# Altium schematic symbol library Vishay Draloric Ceramic Disc Capacitor.SchLib: 519 symbols (part 5 of 8)
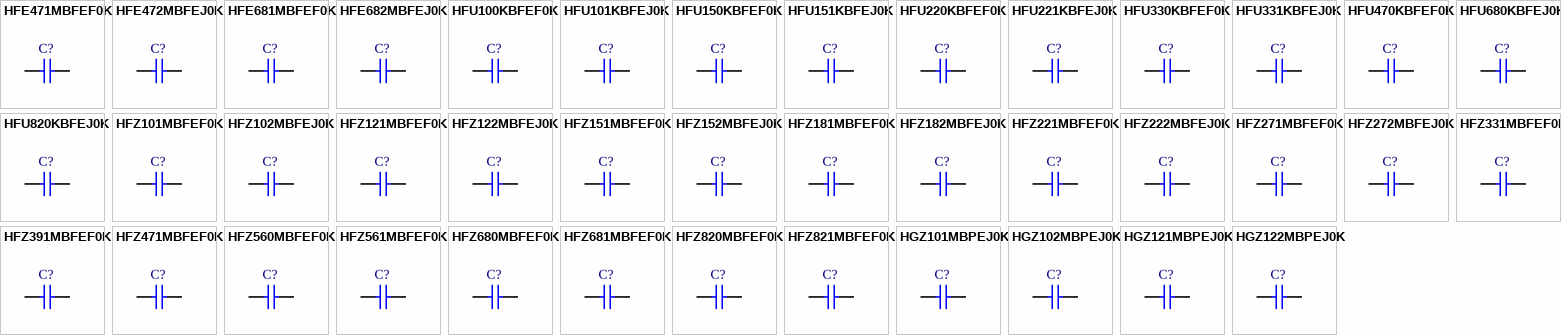
[diagram p16: symbols HFE471MBFEF0K to HGZ122MBPEJ0K]

## HFZ101MBFEF0K
designator C?
Ceramic High Voltage Disc Capacitor, Class 2: 100pF 6kV K 2000; Note: See Datasheet for other lead types & tolerances; Published: 17-Dec-2003; DatasheetDocument: 11-Dec-2001; PackageDocument: 2-Aug-2001; PackageReference: CAPRD12.5-8X5C; Publisher: Altium Limited; ComponentLink1Description: Manufacturer Link; ComponentLink1URL: http://www.vishay.com/; ComponentLink2Description: Datasheet; ComponentLink2URL: http://www.vishay.com/docs/22161/h.pdf; Value: 100pF
footprint CAPRD12.5-8X5C (Capacitor, Ceramic, Thru-Hole, Disc; Body 8 x 5 mm (LxW max) Pin Spacing 12.5 mm (typ))
simulation model CAP (Capacitor)
signal-integrity model Cap
pins: 1, 2

## HFZ102MBFEJ0K
designator C?
Ceramic High Voltage Disc Capacitor, Class 2: 1000pF 6kV K 2000; Note: See Datasheet for other lead types & tolerances; Value: 1nF; Published: 17-Dec-2003; DatasheetDocument: 11-Dec-2001; PackageDocument: 2-Aug-2001; PackageReference: CAPRD12.5-17X5A; Publisher: Altium Limited; ComponentLink1Description: Manufacturer Link; ComponentLink1URL: http://www.vishay.com/; ComponentLink2Description: Datasheet; ComponentLink2URL: http://www.vishay.com/docs/22161/h.pdf
footprint CAPRD12.5-17X5A (Capacitor, Ceramic, Thru-Hole, Disc; Body 17 x 5 mm (LxW max) Pin Spacing 12.5 mm (typ))
simulation model CAP (Capacitor)
signal-integrity model Cap
pins: 1, 2

## HFZ121MBFEF0K
designator C?
Ceramic High Voltage Disc Capacitor, Class 2: 120pF 6kV K 2000; Note: See Datasheet for other lead types & tolerances; Published: 17-Dec-2003; DatasheetDocument: 11-Dec-2001; PackageDocument: 2-Aug-2001; PackageReference: CAPRD12.5-8X5C; Publisher: Altium Limited; ComponentLink1Description: Manufacturer Link; ComponentLink1URL: http://www.vishay.com/; ComponentLink2Description: Datasheet; ComponentLink2URL: http://www.vishay.com/docs/22161/h.pdf; Value: 120pF
footprint CAPRD12.5-8X5C (Capacitor, Ceramic, Thru-Hole, Disc; Body 8 x 5 mm (LxW max) Pin Spacing 12.5 mm (typ))
simulation model CAP (Capacitor)
signal-integrity model Cap
pins: 1, 2

## HFZ122MBFEJ0K
designator C?
Ceramic High Voltage Disc Capacitor, Class 2: 1200pF 6kV K 2000; Note: See Datasheet for other lead types & tolerances; Value: 1.2nF; Published: 17-Dec-2003; DatasheetDocument: 11-Dec-2001; PackageDocument: 2-Aug-2001; PackageReference: CAPRD12.5-19X5; Publisher: Altium Limited; ComponentLink1Description: Manufacturer Link; ComponentLink1URL: http://www.vishay.com/; ComponentLink2Description: Datasheet; ComponentLink2URL: http://www.vishay.com/docs/22161/h.pdf
footprint CAPRD12.5-19X5 (Capacitor, Ceramic, Thru-Hole, Disc; Body 19 x 5 mm (LxW max) Pin Spacing 12.5 mm (typ))
simulation model CAP (Capacitor)
signal-integrity model Cap
pins: 1, 2

## HFZ151MBFEF0K
designator C?
Ceramic High Voltage Disc Capacitor, Class 2: 150pF 6kV K 2000; Note: See Datasheet for other lead types & tolerances; Published: 17-Dec-2003; DatasheetDocument: 11-Dec-2001; PackageDocument: 2-Aug-2001; PackageReference: CAPRD12.5-8X5C; Publisher: Altium Limited; ComponentLink1Description: Manufacturer Link; ComponentLink1URL: http://www.vishay.com/; ComponentLink2Description: Datasheet; ComponentLink2URL: http://www.vishay.com/docs/22161/h.pdf; Value: 150pF
footprint CAPRD12.5-8X5C (Capacitor, Ceramic, Thru-Hole, Disc; Body 8 x 5 mm (LxW max) Pin Spacing 12.5 mm (typ))
simulation model CAP (Capacitor)
signal-integrity model Cap
pins: 1, 2

## HFZ152MBFEJ0K
designator C?
Ceramic High Voltage Disc Capacitor, Class 2: 1500pF 6kV K 2000; Note: See Datasheet for other lead types & tolerances; Value: 1.5nF; Published: 17-Dec-2003; DatasheetDocument: 11-Dec-2001; PackageDocument: 2-Aug-2001; PackageReference: CAPRD12.5-21X5; Publisher: Altium Limited; ComponentLink1Description: Manufacturer Link; ComponentLink1URL: http://www.vishay.com/; ComponentLink2Description: Datasheet; ComponentLink2URL: http://www.vishay.com/docs/22161/h.pdf
footprint CAPRD12.5-21X5 (Capacitor, Ceramic, Thru-Hole, Disc; Body 21 x 5 mm (LxW max) Pin Spacing 12.5 mm (typ))
simulation model CAP (Capacitor)
signal-integrity model Cap
pins: 1, 2

## HFZ181MBFEF0K
designator C?
Ceramic High Voltage Disc Capacitor, Class 2: 180pF 6kV K 2000; Note: See Datasheet for other lead types & tolerances; Published: 17-Dec-2003; DatasheetDocument: 11-Dec-2001; PackageDocument: 2-Aug-2001; PackageReference: CAPRD12.5-10X5B; Publisher: Altium Limited; ComponentLink1Description: Manufacturer Link; ComponentLink1URL: http://www.vishay.com/; ComponentLink2Description: Datasheet; ComponentLink2URL: http://www.vishay.com/docs/22161/h.pdf; Value: 180pF
footprint CAPRD12.5-10X5B (Capacitor, Ceramic, Thru-Hole, Disc; Body 10 x 5 mm (LxW max) Pin Spacing 12.5 mm (typ))
simulation model CAP (Capacitor)
signal-integrity model Cap
pins: 1, 2

## HFZ182MBFEJ0K
designator C?
Ceramic High Voltage Disc Capacitor, Class 2: 1800pF 6kV K 2000; Note: See Datasheet for other lead types & tolerances; Value: 1.8nF; Published: 17-Dec-2003; DatasheetDocument: 11-Dec-2001; PackageDocument: 2-Aug-2001; PackageReference: CAPRD12.5-21X5; Publisher: Altium Limited; ComponentLink1Description: Manufacturer Link; ComponentLink1URL: http://www.vishay.com/; ComponentLink2Description: Datasheet; ComponentLink2URL: http://www.vishay.com/docs/22161/h.pdf
footprint CAPRD12.5-21X5 (Capacitor, Ceramic, Thru-Hole, Disc; Body 21 x 5 mm (LxW max) Pin Spacing 12.5 mm (typ))
simulation model CAP (Capacitor)
signal-integrity model Cap
pins: 1, 2

## HFZ221MBFEF0K
designator C?
Ceramic High Voltage Disc Capacitor, Class 2: 220pF 6kV K 2000; Note: See Datasheet for other lead types & tolerances; Published: 17-Dec-2003; DatasheetDocument: 11-Dec-2001; PackageDocument: 2-Aug-2001; PackageReference: CAPRD12.5-10X5B; Publisher: Altium Limited; ComponentLink1Description: Manufacturer Link; ComponentLink1URL: http://www.vishay.com/; ComponentLink2Description: Datasheet; ComponentLink2URL: http://www.vishay.com/docs/22161/h.pdf; Value: 220pF
footprint CAPRD12.5-10X5B (Capacitor, Ceramic, Thru-Hole, Disc; Body 10 x 5 mm (LxW max) Pin Spacing 12.5 mm (typ))
simulation model CAP (Capacitor)
signal-integrity model Cap
pins: 1, 2

## HFZ222MBFEJ0K
designator C?
Ceramic High Voltage Disc Capacitor, Class 2: 2200pF 6kV K 2000; Note: See Datasheet for other lead types & tolerances; Value: 2.2nF; Published: 17-Dec-2003; DatasheetDocument: 11-Dec-2001; PackageDocument: 2-Aug-2001; PackageReference: CAPRD12.5-25X5; Publisher: Altium Limited; ComponentLink1Description: Manufacturer Link; ComponentLink1URL: http://www.vishay.com/; ComponentLink2Description: Datasheet; ComponentLink2URL: http://www.vishay.com/docs/22161/h.pdf
footprint CAPRD12.5-25X5 (Capacitor, Ceramic, Thru-Hole, Disc; Body 25 x 5 mm (LxW max) Pin Spacing 12.5 mm (typ))
simulation model CAP (Capacitor)
signal-integrity model Cap
pins: 1, 2

## HFZ271MBFEF0K
designator C?
Ceramic High Voltage Disc Capacitor, Class 2: 270pF 6kV K 2000; Note: See Datasheet for other lead types & tolerances; Published: 17-Dec-2003; DatasheetDocument: 11-Dec-2001; PackageDocument: 2-Aug-2001; PackageReference: CAPRD12.5-10X5B; Publisher: Altium Limited; ComponentLink1Description: Manufacturer Link; ComponentLink1URL: http://www.vishay.com/; ComponentLink2Description: Datasheet; ComponentLink2URL: http://www.vishay.com/docs/22161/h.pdf; Value: 270pF
footprint CAPRD12.5-10X5B (Capacitor, Ceramic, Thru-Hole, Disc; Body 10 x 5 mm (LxW max) Pin Spacing 12.5 mm (typ))
simulation model CAP (Capacitor)
signal-integrity model Cap
pins: 1, 2

## HFZ272MBFEJ0K
designator C?
Ceramic High Voltage Disc Capacitor, Class 2: 2700pF 6kV K 2000; Note: See Datasheet for other lead types & tolerances; Value: 2.7nF; Published: 17-Dec-2003; DatasheetDocument: 11-Dec-2001; PackageDocument: 2-Aug-2001; PackageReference: CAPRD12.5-25X5; Publisher: Altium Limited; ComponentLink1Description: Manufacturer Link; ComponentLink1URL: http://www.vishay.com/; ComponentLink2Description: Datasheet; ComponentLink2URL: http://www.vishay.com/docs/22161/h.pdf
footprint CAPRD12.5-25X5 (Capacitor, Ceramic, Thru-Hole, Disc; Body 25 x 5 mm (LxW max) Pin Spacing 12.5 mm (typ))
simulation model CAP (Capacitor)
signal-integrity model Cap
pins: 1, 2

## HFZ331MBFEF0K
designator C?
Ceramic High Voltage Disc Capacitor, Class 2: 330pF 6kV K 2000; Note: See Datasheet for other lead types & tolerances; Published: 17-Dec-2003; DatasheetDocument: 11-Dec-2001; PackageDocument: 2-Aug-2001; PackageReference: CAPRD12.5-10X5B; Publisher: Altium Limited; ComponentLink1Description: Manufacturer Link; ComponentLink1URL: http://www.vishay.com/; ComponentLink2Description: Datasheet; ComponentLink2URL: http://www.vishay.com/docs/22161/h.pdf; Value: 330pF
footprint CAPRD12.5-10X5B (Capacitor, Ceramic, Thru-Hole, Disc; Body 10 x 5 mm (LxW max) Pin Spacing 12.5 mm (typ))
simulation model CAP (Capacitor)
signal-integrity model Cap
pins: 1, 2

## HFZ391MBFEF0K
designator C?
Ceramic High Voltage Disc Capacitor, Class 2: 390pF 6kV K 2000; Note: See Datasheet for other lead types & tolerances; Published: 17-Dec-2003; DatasheetDocument: 11-Dec-2001; PackageDocument: 2-Aug-2001; PackageReference: CAPRD12.5-12X5B; Publisher: Altium Limited; ComponentLink1Description: Manufacturer Link; ComponentLink1URL: http://www.vishay.com/; ComponentLink2Description: Datasheet; ComponentLink2URL: http://www.vishay.com/docs/22161/h.pdf; Value: 390pF
footprint CAPRD12.5-12X5B (Capacitor, Ceramic, Thru-Hole, Disc; Body 12 x 5 mm (LxW max) Pin Spacing 12.5 mm (typ))
simulation model CAP (Capacitor)
signal-integrity model Cap
pins: 1, 2

## HFZ471MBFEF0K
designator C?
Ceramic High Voltage Disc Capacitor, Class 2: 470pF 6kV K 2000; Note: See Datasheet for other lead types & tolerances; Published: 17-Dec-2003; DatasheetDocument: 11-Dec-2001; PackageDocument: 2-Aug-2001; PackageReference: CAPRD12.5-12X5B; Publisher: Altium Limited; ComponentLink1Description: Manufacturer Link; ComponentLink1URL: http://www.vishay.com/; ComponentLink2Description: Datasheet; ComponentLink2URL: http://www.vishay.com/docs/22161/h.pdf; Value: 470pF
footprint CAPRD12.5-12X5B (Capacitor, Ceramic, Thru-Hole, Disc; Body 12 x 5 mm (LxW max) Pin Spacing 12.5 mm (typ))
simulation model CAP (Capacitor)
signal-integrity model Cap
pins: 1, 2

## HFZ560MBFEF0K
designator C?
Ceramic High Voltage Disc Capacitor, Class 2: 56pF 6kV K 2000; Note: See Datasheet for other lead types & tolerances; Published: 17-Dec-2003; DatasheetDocument: 11-Dec-2001; PackageDocument: 2-Aug-2001; PackageReference: CAPRD12.5-7X5A; Publisher: Altium Limited; ComponentLink1Description: Manufacturer Link; ComponentLink1URL: http://www.vishay.com/; ComponentLink2Description: Datasheet; ComponentLink2URL: http://www.vishay.com/docs/22161/h.pdf; Value: 56pF
footprint CAPRD12.5-7X5A (Capacitor, Ceramic, Thru-Hole, Disc; Body 7 x 5 mm (LxW max) Pin Spacing 12.5 mm (typ))
simulation model CAP (Capacitor)
signal-integrity model Cap
pins: 1, 2

## HFZ561MBFEF0K
designator C?
Ceramic High Voltage Disc Capacitor, Class 2: 560pF 6kV K 2000; Note: See Datasheet for other lead types & tolerances; Published: 17-Dec-2003; DatasheetDocument: 11-Dec-2001; PackageDocument: 2-Aug-2001; PackageReference: CAPRD12.5-13X5B; Publisher: Altium Limited; ComponentLink1Description: Manufacturer Link; ComponentLink1URL: http://www.vishay.com/; ComponentLink2Description: Datasheet; ComponentLink2URL: http://www.vishay.com/docs/22161/h.pdf; Value: 560pF
footprint CAPRD12.5-13X5B (Capacitor, Ceramic, Thru-Hole, Disc; Body 13 x 5 mm (LxW max) Pin Spacing 12.5 mm (typ))
simulation model CAP (Capacitor)
signal-integrity model Cap
pins: 1, 2

## HFZ680MBFEF0K
designator C?
Ceramic High Voltage Disc Capacitor, Class 2: 68pF 6kV K 2000; Note: See Datasheet for other lead types & tolerances; Published: 17-Dec-2003; DatasheetDocument: 11-Dec-2001; PackageDocument: 2-Aug-2001; PackageReference: CAPRD12.5-7X5A; Publisher: Altium Limited; ComponentLink1Description: Manufacturer Link; ComponentLink1URL: http://www.vishay.com/; ComponentLink2Description: Datasheet; ComponentLink2URL: http://www.vishay.com/docs/22161/h.pdf; Value: 68pF
footprint CAPRD12.5-7X5A (Capacitor, Ceramic, Thru-Hole, Disc; Body 7 x 5 mm (LxW max) Pin Spacing 12.5 mm (typ))
simulation model CAP (Capacitor)
signal-integrity model Cap
pins: 1, 2

## HFZ681MBFEF0K
designator C?
Ceramic High Voltage Disc Capacitor, Class 2: 680pF 6kV K 2000; Note: See Datasheet for other lead types & tolerances; Published: 17-Dec-2003; DatasheetDocument: 11-Dec-2001; PackageDocument: 2-Aug-2001; PackageReference: CAPRD12.5-15X5B; Publisher: Altium Limited; ComponentLink1Description: Manufacturer Link; ComponentLink1URL: http://www.vishay.com/; ComponentLink2Description: Datasheet; ComponentLink2URL: http://www.vishay.com/docs/22161/h.pdf; Value: 680pF
footprint CAPRD12.5-15X5B (Capacitor, Ceramic, Thru-Hole, Disc; Body 15 x 5 mm (LxW max) Pin Spacing 12.5 mm (typ))
simulation model CAP (Capacitor)
signal-integrity model Cap
pins: 1, 2

## HFZ820MBFEF0K
designator C?
Ceramic High Voltage Disc Capacitor, Class 2: 82pF 6kV K 2000; Note: See Datasheet for other lead types & tolerances; Published: 17-Dec-2003; DatasheetDocument: 11-Dec-2001; PackageDocument: 2-Aug-2001; PackageReference: CAPRD12.5-7X5A; Publisher: Altium Limited; ComponentLink1Description: Manufacturer Link; ComponentLink1URL: http://www.vishay.com/; ComponentLink2Description: Datasheet; ComponentLink2URL: http://www.vishay.com/docs/22161/h.pdf; Value: 82pF
footprint CAPRD12.5-7X5A (Capacitor, Ceramic, Thru-Hole, Disc; Body 7 x 5 mm (LxW max) Pin Spacing 12.5 mm (typ))
simulation model CAP (Capacitor)
signal-integrity model Cap
pins: 1, 2

## HFZ821MBFEF0K
designator C?
Ceramic High Voltage Disc Capacitor, Class 2: 820pF 6kV K 2000; Note: See Datasheet for other lead types & tolerances; Published: 17-Dec-2003; DatasheetDocument: 11-Dec-2001; PackageDocument: 2-Aug-2001; PackageReference: CAPRD12.5-15X5B; Publisher: Altium Limited; ComponentLink1Description: Manufacturer Link; ComponentLink1URL: http://www.vishay.com/; ComponentLink2Description: Datasheet; ComponentLink2URL: http://www.vishay.com/docs/22161/h.pdf; Value: 820pF
footprint CAPRD12.5-15X5B (Capacitor, Ceramic, Thru-Hole, Disc; Body 15 x 5 mm (LxW max) Pin Spacing 12.5 mm (typ))
simulation model CAP (Capacitor)
signal-integrity model Cap
pins: 1, 2

## HGZ101MBPEJ0K
designator C?
Ceramic High Voltage Disc Capacitor, Class 2: 100pF 8kV K 2000; Note: See Datasheet for other lead types & tolerances; Published: 17-Dec-2003; DatasheetDocument: 11-Dec-2001; PackageDocument: 2-Aug-2001; PackageReference: CAPRD12.5-9X8.3; Publisher: Altium Limited; ComponentLink1Description: Manufacturer Link; ComponentLink1URL: http://www.vishay.com/; ComponentLink2Description: Datasheet; ComponentLink2URL: http://www.vishay.com/docs/22161/h.pdf; Value: 100pF
footprint CAPRD12.5-9X8.3 (Capacitor, Ceramic, Thru-Hole, Disc; Body 9 x 8.3 mm (LxW max) Pin Spacing 12.5 mm (typ))
simulation model CAP (Capacitor)
signal-integrity model Cap
pins: 1, 2

## HGZ102MBPEJ0K
designator C?
Ceramic High Voltage Disc Capacitor, Class 2: 1000pF 8kV K 2000; Note: See Datasheet for other lead types & tolerances; Value: 1nF; Published: 17-Dec-2003; DatasheetDocument: 11-Dec-2001; PackageDocument: 2-Aug-2001; PackageReference: CAPRD12.5-18X8.3; Publisher: Altium Limited; ComponentLink1Description: Manufacturer Link; ComponentLink1URL: http://www.vishay.com/; ComponentLink2Description: Datasheet; ComponentLink2URL: http://www.vishay.com/docs/22161/h.pdf
footprint CAPRD12.5-18X8.3 (Capacitor, Ceramic, Thru-Hole, Disc; Body 18 x 8.3 mm (LxW max) Pin Spacing 12.5 mm (typ))
simulation model CAP (Capacitor)
signal-integrity model Cap
pins: 1, 2

## HGZ121MBPEJ0K
designator C?
Ceramic High Voltage Disc Capacitor, Class 2: 120pF 8kV K 2000; Note: See Datasheet for other lead types & tolerances; Published: 17-Dec-2003; DatasheetDocument: 11-Dec-2001; PackageDocument: 2-Aug-2001; PackageReference: CAPRD12.5-9X8.3; Publisher: Altium Limited; ComponentLink1Description: Manufacturer Link; ComponentLink1URL: http://www.vishay.com/; ComponentLink2Description: Datasheet; ComponentLink2URL: http://www.vishay.com/docs/22161/h.pdf; Value: 120pF
footprint CAPRD12.5-9X8.3 (Capacitor, Ceramic, Thru-Hole, Disc; Body 9 x 8.3 mm (LxW max) Pin Spacing 12.5 mm (typ))
simulation model CAP (Capacitor)
signal-integrity model Cap
pins: 1, 2

## HGZ122MBPEJ0K
designator C?
Ceramic High Voltage Disc Capacitor, Class 2: 1200pF 8kV K 2000; Note: See Datasheet for other lead types & tolerances; Value: 1.2nF; Published: 17-Dec-2003; DatasheetDocument: 11-Dec-2001; PackageDocument: 2-Aug-2001; PackageReference: CAPRD12.5-21X8.3; Publisher: Altium Limited; ComponentLink1Description: Manufacturer Link; ComponentLink1URL: http://www.vishay.com/; ComponentLink2Description: Datasheet; ComponentLink2URL: http://www.vishay.com/docs/22161/h.pdf
footprint CAPRD12.5-21X8.3 (Capacitor, Ceramic, Thru-Hole, Disc; Body 21 x 8.3 mm (LxW max) Pin Spacing 12.5 mm (typ))
simulation model CAP (Capacitor)
signal-integrity model Cap
pins: 1, 2

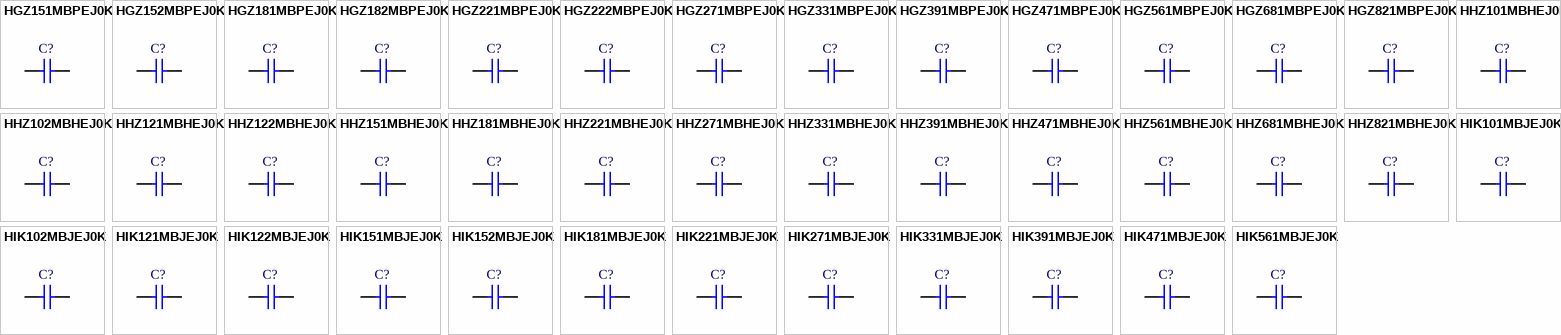
[diagram p8: symbols HGZ151MBPEJ0K to HIK561MBJEJ0K]

## HGZ151MBPEJ0K
designator C?
Ceramic High Voltage Disc Capacitor, Class 2: 150pF 8kV K 2000; Note: See Datasheet for other lead types & tolerances; Published: 17-Dec-2003; DatasheetDocument: 11-Dec-2001; PackageDocument: 2-Aug-2001; PackageReference: CAPRD12.5-9X8.3; Publisher: Altium Limited; ComponentLink1Description: Manufacturer Link; ComponentLink1URL: http://www.vishay.com/; ComponentLink2Description: Datasheet; ComponentLink2URL: http://www.vishay.com/docs/22161/h.pdf; Value: 150pF
footprint CAPRD12.5-9X8.3 (Capacitor, Ceramic, Thru-Hole, Disc; Body 9 x 8.3 mm (LxW max) Pin Spacing 12.5 mm (typ))
simulation model CAP (Capacitor)
signal-integrity model Cap
pins: 1, 2

## HGZ152MBPEJ0K
designator C?
Ceramic High Voltage Disc Capacitor, Class 2: 1500pF 8kV K 2000; Note: See Datasheet for other lead types & tolerances; Value: 1.5nF; Published: 17-Dec-2003; DatasheetDocument: 11-Dec-2001; PackageDocument: 2-Aug-2001; PackageReference: CAPRD12.5-21X8.3; Publisher: Altium Limited; ComponentLink1Description: Manufacturer Link; ComponentLink1URL: http://www.vishay.com/; ComponentLink2Description: Datasheet; ComponentLink2URL: http://www.vishay.com/docs/22161/h.pdf
footprint CAPRD12.5-21X8.3 (Capacitor, Ceramic, Thru-Hole, Disc; Body 21 x 8.3 mm (LxW max) Pin Spacing 12.5 mm (typ))
simulation model CAP (Capacitor)
signal-integrity model Cap
pins: 1, 2

## HGZ181MBPEJ0K
designator C?
Ceramic High Voltage Disc Capacitor, Class 2: 180pF 8kV K 2000; Note: See Datasheet for other lead types & tolerances; Published: 17-Dec-2003; DatasheetDocument: 11-Dec-2001; PackageDocument: 2-Aug-2001; PackageReference: CAPRD12.5-11X8.3; Publisher: Altium Limited; ComponentLink1Description: Manufacturer Link; ComponentLink1URL: http://www.vishay.com/; ComponentLink2Description: Datasheet; ComponentLink2URL: http://www.vishay.com/docs/22161/h.pdf; Value: 180pF
footprint CAPRD12.5-11X8.3 (Capacitor, Ceramic, Thru-Hole, Disc; Body 11 x 8.3 mm (LxW max) Pin Spacing 12.5 mm (typ))
simulation model CAP (Capacitor)
signal-integrity model Cap
pins: 1, 2

## HGZ182MBPEJ0K
designator C?
Ceramic High Voltage Disc Capacitor, Class 2: 1800pF 8kV K 2000; Note: See Datasheet for other lead types & tolerances; Value: 1.8nF; Published: 17-Dec-2003; DatasheetDocument: 11-Dec-2001; PackageDocument: 2-Aug-2001; PackageReference: CAPRD12.5-24X8.3; Publisher: Altium Limited; ComponentLink1Description: Manufacturer Link; ComponentLink1URL: http://www.vishay.com/; ComponentLink2Description: Datasheet; ComponentLink2URL: http://www.vishay.com/docs/22161/h.pdf
footprint CAPRD12.5-24X8.3 (Capacitor, Ceramic, Thru-Hole, Disc; Body 24 x 8.3 mm (LxW max) Pin Spacing 12.5 mm (typ))
simulation model CAP (Capacitor)
signal-integrity model Cap
pins: 1, 2

## HGZ221MBPEJ0K
designator C?
Ceramic High Voltage Disc Capacitor, Class 2: 220pF 8kV K 2000; Note: See Datasheet for other lead types & tolerances; Published: 17-Dec-2003; DatasheetDocument: 11-Dec-2001; PackageDocument: 2-Aug-2001; PackageReference: CAPRD12.5-11X8.3; Publisher: Altium Limited; ComponentLink1Description: Manufacturer Link; ComponentLink1URL: http://www.vishay.com/; ComponentLink2Description: Datasheet; ComponentLink2URL: http://www.vishay.com/docs/22161/h.pdf; Value: 220pF
footprint CAPRD12.5-11X8.3 (Capacitor, Ceramic, Thru-Hole, Disc; Body 11 x 8.3 mm (LxW max) Pin Spacing 12.5 mm (typ))
simulation model CAP (Capacitor)
signal-integrity model Cap
pins: 1, 2

## HGZ222MBPEJ0K
designator C?
Ceramic High Voltage Disc Capacitor, Class 2: 2200pF 8kV K 2000; Note: See Datasheet for other lead types & tolerances; Value: 2.2nF; Published: 17-Dec-2003; DatasheetDocument: 11-Dec-2001; PackageDocument: 2-Aug-2001; PackageReference: CAPRD12.5-24X8.3; Publisher: Altium Limited; ComponentLink1Description: Manufacturer Link; ComponentLink1URL: http://www.vishay.com/; ComponentLink2Description: Datasheet; ComponentLink2URL: http://www.vishay.com/docs/22161/h.pdf
footprint CAPRD12.5-24X8.3 (Capacitor, Ceramic, Thru-Hole, Disc; Body 24 x 8.3 mm (LxW max) Pin Spacing 12.5 mm (typ))
simulation model CAP (Capacitor)
signal-integrity model Cap
pins: 1, 2

## HGZ271MBPEJ0K
designator C?
Ceramic High Voltage Disc Capacitor, Class 2: 270pF 8kV K 2000; Note: See Datasheet for other lead types & tolerances; Published: 17-Dec-2003; DatasheetDocument: 11-Dec-2001; PackageDocument: 2-Aug-2001; PackageReference: CAPRD12.5-11X8.3; Publisher: Altium Limited; ComponentLink1Description: Manufacturer Link; ComponentLink1URL: http://www.vishay.com/; ComponentLink2Description: Datasheet; ComponentLink2URL: http://www.vishay.com/docs/22161/h.pdf; Value: 270pF
footprint CAPRD12.5-11X8.3 (Capacitor, Ceramic, Thru-Hole, Disc; Body 11 x 8.3 mm (LxW max) Pin Spacing 12.5 mm (typ))
simulation model CAP (Capacitor)
signal-integrity model Cap
pins: 1, 2

## HGZ331MBPEJ0K
designator C?
Ceramic High Voltage Disc Capacitor, Class 2: 330pF 8kV K 2000; Note: See Datasheet for other lead types & tolerances; Published: 17-Dec-2003; DatasheetDocument: 11-Dec-2001; PackageDocument: 2-Aug-2001; PackageReference: CAPRD12.5-13X8.3; Publisher: Altium Limited; ComponentLink1Description: Manufacturer Link; ComponentLink1URL: http://www.vishay.com/; ComponentLink2Description: Datasheet; ComponentLink2URL: http://www.vishay.com/docs/22161/h.pdf; Value: 330pF
footprint CAPRD12.5-13X8.3 (Capacitor, Ceramic, Thru-Hole, Disc; Body 13 x 8.3 mm (LxW max) Pin Spacing 12.5 mm (typ))
simulation model CAP (Capacitor)
signal-integrity model Cap
pins: 1, 2

## HGZ391MBPEJ0K
designator C?
Ceramic High Voltage Disc Capacitor, Class 2: 390pF 8kV K 2000; Note: See Datasheet for other lead types & tolerances; Published: 17-Dec-2003; DatasheetDocument: 11-Dec-2001; PackageDocument: 2-Aug-2001; PackageReference: CAPRD12.5-13X8.3; Publisher: Altium Limited; ComponentLink1Description: Manufacturer Link; ComponentLink1URL: http://www.vishay.com/; ComponentLink2Description: Datasheet; ComponentLink2URL: http://www.vishay.com/docs/22161/h.pdf; Value: 390pF
footprint CAPRD12.5-13X8.3 (Capacitor, Ceramic, Thru-Hole, Disc; Body 13 x 8.3 mm (LxW max) Pin Spacing 12.5 mm (typ))
simulation model CAP (Capacitor)
signal-integrity model Cap
pins: 1, 2

## HGZ471MBPEJ0K
designator C?
Ceramic High Voltage Disc Capacitor, Class 2: 470pF 8kV K 2000; Note: See Datasheet for other lead types & tolerances; Published: 17-Dec-2003; DatasheetDocument: 11-Dec-2001; PackageDocument: 2-Aug-2001; PackageReference: CAPRD12.5-14X8.3; Publisher: Altium Limited; ComponentLink1Description: Manufacturer Link; ComponentLink1URL: http://www.vishay.com/; ComponentLink2Description: Datasheet; ComponentLink2URL: http://www.vishay.com/docs/22161/h.pdf; Value: 470pF
footprint CAPRD12.5-14X8.3 (Capacitor, Ceramic, Thru-Hole, Disc; Body 14 x 8.3 mm (LxW max) Pin Spacing 12.5 mm (typ))
simulation model CAP (Capacitor)
signal-integrity model Cap
pins: 1, 2

## HGZ561MBPEJ0K
designator C?
Ceramic High Voltage Disc Capacitor, Class 2: 560pF 8kV K 2000; Note: See Datasheet for other lead types & tolerances; Published: 17-Dec-2003; DatasheetDocument: 11-Dec-2001; PackageDocument: 2-Aug-2001; PackageReference: CAPRD12.5-16X8.3; Publisher: Altium Limited; ComponentLink1Description: Manufacturer Link; ComponentLink1URL: http://www.vishay.com/; ComponentLink2Description: Datasheet; ComponentLink2URL: http://www.vishay.com/docs/22161/h.pdf; Value: 560pF
footprint CAPRD12.5-16X8.3 (Capacitor, Ceramic, Thru-Hole, Disc; Body 16 x 8.3 mm (LxW max) Pin Spacing 12.5 mm (typ))
simulation model CAP (Capacitor)
signal-integrity model Cap
pins: 1, 2

## HGZ681MBPEJ0K
designator C?
Ceramic High Voltage Disc Capacitor, Class 2: 680pF 8kV K 2000; Note: See Datasheet for other lead types & tolerances; Published: 17-Dec-2003; DatasheetDocument: 11-Dec-2001; PackageDocument: 2-Aug-2001; PackageReference: CAPRD12.5-16X8.3; Publisher: Altium Limited; ComponentLink1Description: Manufacturer Link; ComponentLink1URL: http://www.vishay.com/; ComponentLink2Description: Datasheet; ComponentLink2URL: http://www.vishay.com/docs/22161/h.pdf; Value: 680pF
footprint CAPRD12.5-16X8.3 (Capacitor, Ceramic, Thru-Hole, Disc; Body 16 x 8.3 mm (LxW max) Pin Spacing 12.5 mm (typ))
simulation model CAP (Capacitor)
signal-integrity model Cap
pins: 1, 2

## HGZ821MBPEJ0K
designator C?
Ceramic High Voltage Disc Capacitor, Class 2: 820pF 8kV K 2000; Note: See Datasheet for other lead types & tolerances; Published: 17-Dec-2003; DatasheetDocument: 11-Dec-2001; PackageDocument: 2-Aug-2001; PackageReference: CAPRD12.5-18X8.3; Publisher: Altium Limited; ComponentLink1Description: Manufacturer Link; ComponentLink1URL: http://www.vishay.com/; ComponentLink2Description: Datasheet; ComponentLink2URL: http://www.vishay.com/docs/22161/h.pdf; Value: 820pF
footprint CAPRD12.5-18X8.3 (Capacitor, Ceramic, Thru-Hole, Disc; Body 18 x 8.3 mm (LxW max) Pin Spacing 12.5 mm (typ))
simulation model CAP (Capacitor)
signal-integrity model Cap
pins: 1, 2

## HHZ101MBHEJ0K
designator C?
Ceramic High Voltage Disc Capacitor, Class 2: 100pF 10kV K 2000; Note: See Datasheet for other lead types & tolerances; Published: 17-Dec-2003; DatasheetDocument: 11-Dec-2001; PackageDocument: 2-Aug-2001; PackageReference: CAPRD12.5-11X6; Publisher: Altium Limited; ComponentLink1Description: Manufacturer Link; ComponentLink1URL: http://www.vishay.com/; ComponentLink2Description: Datasheet; ComponentLink2URL: http://www.vishay.com/docs/22161/h.pdf; Value: 100pF
footprint CAPRD12.5-11X6 (Capacitor, Ceramic, Thru-Hole, Disc; Body 11 x 6 mm (LxW max) Pin Spacing 12.5 mm (typ))
simulation model CAP (Capacitor)
signal-integrity model Cap
pins: 1, 2

## HHZ102MBHEJ0K
designator C?
Ceramic High Voltage Disc Capacitor, Class 2: 1000pF 10kV K 2000; Note: See Datasheet for other lead types & tolerances; Value: 1nF; Published: 17-Dec-2003; DatasheetDocument: 11-Dec-2001; PackageDocument: 2-Aug-2001; PackageReference: CAPRD12.5-21X9; Publisher: Altium Limited; ComponentLink1Description: Manufacturer Link; ComponentLink1URL: http://www.vishay.com/; ComponentLink2Description: Datasheet; ComponentLink2URL: http://www.vishay.com/docs/22161/h.pdf
footprint CAPRD12.5-21X9 (Capacitor, Ceramic, Thru-Hole, Disc; Body 21 x 9 mm (LxW max) Pin Spacing 12.5 mm (typ))
simulation model CAP (Capacitor)
signal-integrity model Cap
pins: 1, 2

## HHZ121MBHEJ0K
designator C?
Ceramic High Voltage Disc Capacitor, Class 2: 120pF 10kV K 2000; Note: See Datasheet for other lead types & tolerances; Published: 17-Dec-2003; DatasheetDocument: 11-Dec-2001; PackageDocument: 2-Aug-2001; PackageReference: CAPRD12.5-11X6; Publisher: Altium Limited; ComponentLink1Description: Manufacturer Link; ComponentLink1URL: http://www.vishay.com/; ComponentLink2Description: Datasheet; ComponentLink2URL: http://www.vishay.com/docs/22161/h.pdf; Value: 120pF
footprint CAPRD12.5-11X6 (Capacitor, Ceramic, Thru-Hole, Disc; Body 11 x 6 mm (LxW max) Pin Spacing 12.5 mm (typ))
simulation model CAP (Capacitor)
signal-integrity model Cap
pins: 1, 2

## HHZ122MBHEJ0K
designator C?
Ceramic High Voltage Disc Capacitor, Class 2: 1200pF 10kV K 2000; Note: See Datasheet for other lead types & tolerances; Value: 1.2nF; Published: 17-Dec-2003; DatasheetDocument: 11-Dec-2001; PackageDocument: 2-Aug-2001; PackageReference: CAPRD12.5-21X5A; Publisher: Altium Limited; ComponentLink1Description: Manufacturer Link; ComponentLink1URL: http://www.vishay.com/; ComponentLink2Description: Datasheet; ComponentLink2URL: http://www.vishay.com/docs/22161/h.pdf
footprint CAPRD12.5-21X5A (Capacitor, Ceramic, Thru-Hole, Disc; Body 21 x 5 mm (LxW max) Pin Spacing 12.5 mm (typ))
simulation model CAP (Capacitor)
signal-integrity model Cap
pins: 1, 2

## HHZ151MBHEJ0K
designator C?
Ceramic High Voltage Disc Capacitor, Class 2: 150pF 10kV K 2000; Note: See Datasheet for other lead types & tolerances; Published: 17-Dec-2003; DatasheetDocument: 11-Dec-2001; PackageDocument: 2-Aug-2001; PackageReference: CAPRD12.5-11X9; Publisher: Altium Limited; ComponentLink1Description: Manufacturer Link; ComponentLink1URL: http://www.vishay.com/; ComponentLink2Description: Datasheet; ComponentLink2URL: http://www.vishay.com/docs/22161/h.pdf; Value: 150pF
footprint CAPRD12.5-11X9 (Capacitor, Ceramic, Thru-Hole, Disc; Body 11 x 9 mm (LxW max) Pin Spacing 12.5 mm (typ))
simulation model CAP (Capacitor)
signal-integrity model Cap
pins: 1, 2

## HHZ181MBHEJ0K
designator C?
Ceramic High Voltage Disc Capacitor, Class 2: 180pF 10kV K 2000; Note: See Datasheet for other lead types & tolerances; Published: 17-Dec-2003; DatasheetDocument: 11-Dec-2001; PackageDocument: 2-Aug-2001; PackageReference: CAPRD12.5-11X9; Publisher: Altium Limited; ComponentLink1Description: Manufacturer Link; ComponentLink1URL: http://www.vishay.com/; ComponentLink2Description: Datasheet; ComponentLink2URL: http://www.vishay.com/docs/22161/h.pdf; Value: 180pF
footprint CAPRD12.5-11X9 (Capacitor, Ceramic, Thru-Hole, Disc; Body 11 x 9 mm (LxW max) Pin Spacing 12.5 mm (typ))
simulation model CAP (Capacitor)
signal-integrity model Cap
pins: 1, 2

## HHZ221MBHEJ0K
designator C?
Ceramic High Voltage Disc Capacitor, Class 2: 220pF 10kV K 2000; Note: See Datasheet for other lead types & tolerances; Published: 17-Dec-2003; DatasheetDocument: 11-Dec-2001; PackageDocument: 2-Aug-2001; PackageReference: CAPRD12.5-11X9; Publisher: Altium Limited; ComponentLink1Description: Manufacturer Link; ComponentLink1URL: http://www.vishay.com/; ComponentLink2Description: Datasheet; ComponentLink2URL: http://www.vishay.com/docs/22161/h.pdf; Value: 220pF
footprint CAPRD12.5-11X9 (Capacitor, Ceramic, Thru-Hole, Disc; Body 11 x 9 mm (LxW max) Pin Spacing 12.5 mm (typ))
simulation model CAP (Capacitor)
signal-integrity model Cap
pins: 1, 2

## HHZ271MBHEJ0K
designator C?
Ceramic High Voltage Disc Capacitor, Class 2: 270pF 10kV K 2000; Note: See Datasheet for other lead types & tolerances; Published: 17-Dec-2003; DatasheetDocument: 11-Dec-2001; PackageDocument: 2-Aug-2001; PackageReference: CAPRD12.5-13X9; Publisher: Altium Limited; ComponentLink1Description: Manufacturer Link; ComponentLink1URL: http://www.vishay.com/; ComponentLink2Description: Datasheet; ComponentLink2URL: http://www.vishay.com/docs/22161/h.pdf; Value: 270pF
footprint CAPRD12.5-13X9 (Capacitor, Ceramic, Thru-Hole, Disc; Body 13 x 9 mm (LxW max) Pin Spacing 12.5 mm (typ))
simulation model CAP (Capacitor)
signal-integrity model Cap
pins: 1, 2

## HHZ331MBHEJ0K
designator C?
Ceramic High Voltage Disc Capacitor, Class 2: 330pF 10kV K 2000; Note: See Datasheet for other lead types & tolerances; Published: 17-Dec-2003; DatasheetDocument: 11-Dec-2001; PackageDocument: 2-Aug-2001; PackageReference: CAPRD12.5-13X9; Publisher: Altium Limited; ComponentLink1Description: Manufacturer Link; ComponentLink1URL: http://www.vishay.com/; ComponentLink2Description: Datasheet; ComponentLink2URL: http://www.vishay.com/docs/22161/h.pdf; Value: 330pF
footprint CAPRD12.5-13X9 (Capacitor, Ceramic, Thru-Hole, Disc; Body 13 x 9 mm (LxW max) Pin Spacing 12.5 mm (typ))
simulation model CAP (Capacitor)
signal-integrity model Cap
pins: 1, 2

## HHZ391MBHEJ0K
designator C?
Ceramic High Voltage Disc Capacitor, Class 2: 390pF 10kV K 2000; Note: See Datasheet for other lead types & tolerances; Published: 17-Dec-2003; DatasheetDocument: 11-Dec-2001; PackageDocument: 2-Aug-2001; PackageReference: CAPRD12.5-14X9; Publisher: Altium Limited; ComponentLink1Description: Manufacturer Link; ComponentLink1URL: http://www.vishay.com/; ComponentLink2Description: Datasheet; ComponentLink2URL: http://www.vishay.com/docs/22161/h.pdf; Value: 390pF
footprint CAPRD12.5-14X9 (Capacitor, Ceramic, Thru-Hole, Disc; Body 14 x 9 mm (LxW max) Pin Spacing 12.5 mm (typ))
simulation model CAP (Capacitor)
signal-integrity model Cap
pins: 1, 2

## HHZ471MBHEJ0K
designator C?
Ceramic High Voltage Disc Capacitor, Class 2: 470pF 10kV K 2000; Note: See Datasheet for other lead types & tolerances; Published: 17-Dec-2003; DatasheetDocument: 11-Dec-2001; PackageDocument: 2-Aug-2001; PackageReference: CAPRD12.5-16X9; Publisher: Altium Limited; ComponentLink1Description: Manufacturer Link; ComponentLink1URL: http://www.vishay.com/; ComponentLink2Description: Datasheet; ComponentLink2URL: http://www.vishay.com/docs/22161/h.pdf; Value: 470pF
footprint CAPRD12.5-16X9 (Capacitor, Ceramic, Thru-Hole, Disc; Body 16 x 9 mm (LxW max) Pin Spacing 12.5 mm (typ))
simulation model CAP (Capacitor)
signal-integrity model Cap
pins: 1, 2

## HHZ561MBHEJ0K
designator C?
Ceramic High Voltage Disc Capacitor, Class 2: 560pF 10kV K 2000; Note: See Datasheet for other lead types & tolerances; Published: 17-Dec-2003; DatasheetDocument: 11-Dec-2001; PackageDocument: 2-Aug-2001; PackageReference: CAPRD12.5-16X9; Publisher: Altium Limited; ComponentLink1Description: Manufacturer Link; ComponentLink1URL: http://www.vishay.com/; ComponentLink2Description: Datasheet; ComponentLink2URL: http://www.vishay.com/docs/22161/h.pdf; Value: 560pF
footprint CAPRD12.5-16X9 (Capacitor, Ceramic, Thru-Hole, Disc; Body 16 x 9 mm (LxW max) Pin Spacing 12.5 mm (typ))
simulation model CAP (Capacitor)
signal-integrity model Cap
pins: 1, 2

## HHZ681MBHEJ0K
designator C?
Ceramic High Voltage Disc Capacitor, Class 2: 680pF 10kV K 2000; Note: See Datasheet for other lead types & tolerances; Published: 17-Dec-2003; DatasheetDocument: 11-Dec-2001; PackageDocument: 2-Aug-2001; PackageReference: CAPRD12.5-18X9; Publisher: Altium Limited; ComponentLink1Description: Manufacturer Link; ComponentLink1URL: http://www.vishay.com/; ComponentLink2Description: Datasheet; ComponentLink2URL: http://www.vishay.com/docs/22161/h.pdf; Value: 680pF
footprint CAPRD12.5-18X9 (Capacitor, Ceramic, Thru-Hole, Disc; Body 18 x 9 mm (LxW max) Pin Spacing 12.5 mm (typ))
simulation model CAP (Capacitor)
signal-integrity model Cap
pins: 1, 2

## HHZ821MBHEJ0K
designator C?
Ceramic High Voltage Disc Capacitor, Class 2: 820pF 10kV K 2000; Note: See Datasheet for other lead types & tolerances; Published: 17-Dec-2003; DatasheetDocument: 11-Dec-2001; PackageDocument: 2-Aug-2001; PackageReference: CAPRD12.5-18X9; Publisher: Altium Limited; ComponentLink1Description: Manufacturer Link; ComponentLink1URL: http://www.vishay.com/; ComponentLink2Description: Datasheet; ComponentLink2URL: http://www.vishay.com/docs/22161/h.pdf; Value: 820pF
footprint CAPRD12.5-18X9 (Capacitor, Ceramic, Thru-Hole, Disc; Body 18 x 9 mm (LxW max) Pin Spacing 12.5 mm (typ))
simulation model CAP (Capacitor)
signal-integrity model Cap
pins: 1, 2

## HIK101MBJEJ0K
designator C?
Ceramic Pulse Disc Capacitor, Class 2: 100pF 15kV K 1500; Note: See Datasheet for other lead types & tolerances; Published: 17-Dec-2003; DatasheetDocument: 6-Sep-2001; PackageDocument: 2-Aug-2001; PackageReference: CAPRD12.5-8X8; Publisher: Altium Limited; ComponentLink1Description: Manufacturer Link; ComponentLink1URL: http://www.vishay.com/; ComponentLink2Description: Datasheet; ComponentLink2URL: http://www.vishay.com/docs/22164/hk.pdf; Value: 100pF
footprint CAPRD12.5-8X8 (Capacitor, Ceramic, Thru-Hole, Disc; Body 8 x 8 mm (LxW max) Pin Spacing 12.5 mm (typ))
simulation model CAP (Capacitor)
signal-integrity model Cap
pins: 1, 2

## HIK102MBJEJ0K
designator C?
Ceramic Pulse Disc Capacitor, Class 2: 1000pF 15kV K 1500; Note: See Datasheet for other lead types & tolerances; Value: 1nF; Published: 17-Dec-2003; DatasheetDocument: 6-Sep-2001; PackageDocument: 2-Aug-2001; PackageReference: CAPRD12.5-20X8.4; Publisher: Altium Limited; ComponentLink1Description: Manufacturer Link; ComponentLink1URL: http://www.vishay.com/; ComponentLink2Description: Datasheet; ComponentLink2URL: http://www.vishay.com/docs/22164/hk.pdf
footprint CAPRD12.5-20X8.4 (Capacitor, Ceramic, Thru-Hole, Disc; Body 20 x 8.4 mm (LxW max) Pin Spacing 12.5 mm (typ))
simulation model CAP (Capacitor)
signal-integrity model Cap
pins: 1, 2

## HIK121MBJEJ0K
designator C?
Ceramic Pulse Disc Capacitor, Class 2: 120pF 15kV K 1500; Note: See Datasheet for other lead types & tolerances; Published: 17-Dec-2003; DatasheetDocument: 6-Sep-2001; PackageDocument: 2-Aug-2001; PackageReference: CAPRD12.5-9X8; Publisher: Altium Limited; ComponentLink1Description: Manufacturer Link; ComponentLink1URL: http://www.vishay.com/; ComponentLink2Description: Datasheet; ComponentLink2URL: http://www.vishay.com/docs/22164/hk.pdf; Value: 120pF
footprint CAPRD12.5-9X8 (Capacitor, Ceramic, Thru-Hole, Disc; Body 9 x 8 mm (LxW max) Pin Spacing 12.5 mm (typ))
simulation model CAP (Capacitor)
signal-integrity model Cap
pins: 1, 2

## HIK122MBJEJ0K
designator C?
Ceramic Pulse Disc Capacitor, Class 2: 1200pF 15kV K 1500; Note: See Datasheet for other lead types & tolerances; Value: 1.2nF; Published: 17-Dec-2003; DatasheetDocument: 6-Sep-2001; PackageDocument: 2-Aug-2001; PackageReference: CAPRD12.5-24X9; Publisher: Altium Limited; ComponentLink1Description: Manufacturer Link; ComponentLink1URL: http://www.vishay.com/; ComponentLink2Description: Datasheet; ComponentLink2URL: http://www.vishay.com/docs/22164/hk.pdf
footprint CAPRD12.5-24X9 (Capacitor, Ceramic, Thru-Hole, Disc; Body 24 x 9 mm (LxW max) Pin Spacing 12.5 mm (typ))
simulation model CAP (Capacitor)
signal-integrity model Cap
pins: 1, 2

## HIK151MBJEJ0K
designator C?
Ceramic Pulse Disc Capacitor, Class 2: 150pF 15kV K 1500; Note: See Datasheet for other lead types & tolerances; Published: 17-Dec-2003; DatasheetDocument: 6-Sep-2001; PackageDocument: 2-Aug-2001; PackageReference: CAPRD12.5-9X8; Publisher: Altium Limited; ComponentLink1Description: Manufacturer Link; ComponentLink1URL: http://www.vishay.com/; ComponentLink2Description: Datasheet; ComponentLink2URL: http://www.vishay.com/docs/22164/hk.pdf; Value: 150pF
footprint CAPRD12.5-9X8 (Capacitor, Ceramic, Thru-Hole, Disc; Body 9 x 8 mm (LxW max) Pin Spacing 12.5 mm (typ))
simulation model CAP (Capacitor)
signal-integrity model Cap
pins: 1, 2

## HIK152MBJEJ0K
designator C?
Ceramic Pulse Disc Capacitor, Class 2: 1500pF 15kV K 1500; Note: See Datasheet for other lead types & tolerances; Value: 1.5nF; Published: 17-Dec-2003; DatasheetDocument: 6-Sep-2001; PackageDocument: 2-Aug-2001; PackageReference: CAPRD12.5-24X9; Publisher: Altium Limited; ComponentLink1Description: Manufacturer Link; ComponentLink1URL: http://www.vishay.com/; ComponentLink2Description: Datasheet; ComponentLink2URL: http://www.vishay.com/docs/22164/hk.pdf
footprint CAPRD12.5-24X9 (Capacitor, Ceramic, Thru-Hole, Disc; Body 24 x 9 mm (LxW max) Pin Spacing 12.5 mm (typ))
simulation model CAP (Capacitor)
signal-integrity model Cap
pins: 1, 2

## HIK181MBJEJ0K
designator C?
Ceramic Pulse Disc Capacitor, Class 2: 180pF 15kV K 1500; Note: See Datasheet for other lead types & tolerances; Published: 17-Dec-2003; DatasheetDocument: 6-Sep-2001; PackageDocument: 2-Aug-2001; PackageReference: CAPRD12.5-10X8; Publisher: Altium Limited; ComponentLink1Description: Manufacturer Link; ComponentLink1URL: http://www.vishay.com/; ComponentLink2Description: Datasheet; ComponentLink2URL: http://www.vishay.com/docs/22164/hk.pdf; Value: 180pF
footprint CAPRD12.5-10X8 (Capacitor, Ceramic, Thru-Hole, Disc; Body 10 x 8 mm (LxW max) Pin Spacing 12.5 mm (typ))
simulation model CAP (Capacitor)
signal-integrity model Cap
pins: 1, 2

## HIK221MBJEJ0K
designator C?
Ceramic Pulse Disc Capacitor, Class 2: 220pF 15kV K 1500; Note: See Datasheet for other lead types & tolerances; Published: 17-Dec-2003; DatasheetDocument: 6-Sep-2001; PackageDocument: 2-Aug-2001; PackageReference: CAPRD12.5-10X8; Publisher: Altium Limited; ComponentLink1Description: Manufacturer Link; ComponentLink1URL: http://www.vishay.com/; ComponentLink2Description: Datasheet; ComponentLink2URL: http://www.vishay.com/docs/22164/hk.pdf; Value: 220pF
footprint CAPRD12.5-10X8 (Capacitor, Ceramic, Thru-Hole, Disc; Body 10 x 8 mm (LxW max) Pin Spacing 12.5 mm (typ))
simulation model CAP (Capacitor)
signal-integrity model Cap
pins: 1, 2

## HIK271MBJEJ0K
designator C?
Ceramic Pulse Disc Capacitor, Class 2: 270pF 15kV K 1500; Note: See Datasheet for other lead types & tolerances; Published: 17-Dec-2003; DatasheetDocument: 6-Sep-2001; PackageDocument: 2-Aug-2001; PackageReference: CAPRD12.5-11X8; Publisher: Altium Limited; ComponentLink1Description: Manufacturer Link; ComponentLink1URL: http://www.vishay.com/; ComponentLink2Description: Datasheet; ComponentLink2URL: http://www.vishay.com/docs/22164/hk.pdf; Value: 270pF
footprint CAPRD12.5-11X8 (Capacitor, Ceramic, Thru-Hole, Disc; Body 11 x 8 mm (LxW max) Pin Spacing 12.5 mm (typ))
simulation model CAP (Capacitor)
signal-integrity model Cap
pins: 1, 2

## HIK331MBJEJ0K
designator C?
Ceramic Pulse Disc Capacitor, Class 2: 330pF 15kV K 1500; Note: See Datasheet for other lead types & tolerances; Published: 17-Dec-2003; DatasheetDocument: 6-Sep-2001; PackageDocument: 2-Aug-2001; PackageReference: CAPRD12.5-11.5X8; Publisher: Altium Limited; ComponentLink1Description: Manufacturer Link; ComponentLink1URL: http://www.vishay.com/; ComponentLink2Description: Datasheet; ComponentLink2URL: http://www.vishay.com/docs/22164/hk.pdf; Value: 330pF
footprint CAPRD12.5-11.5X8 (Capacitor, Ceramic, Thru-Hole, Disc; Body 11.5 x 8 mm (LxW max) Pin Spacing 12.5 mm (typ))
simulation model CAP (Capacitor)
signal-integrity model Cap
pins: 1, 2

## HIK391MBJEJ0K
designator C?
Ceramic Pulse Disc Capacitor, Class 2: 390pF 15kV K 1500; Note: See Datasheet for other lead types & tolerances; Published: 17-Dec-2003; DatasheetDocument: 6-Sep-2001; PackageDocument: 2-Aug-2001; PackageReference: CAPRD12.5-13X8.4; Publisher: Altium Limited; ComponentLink1Description: Manufacturer Link; ComponentLink1URL: http://www.vishay.com/; ComponentLink2Description: Datasheet; ComponentLink2URL: http://www.vishay.com/docs/22164/hk.pdf; Value: 390pF
footprint CAPRD12.5-13X8.4 (Capacitor, Ceramic, Thru-Hole, Disc; Body 13 x 8.4 mm (LxW max) Pin Spacing 12.5 mm (typ))
simulation model CAP (Capacitor)
signal-integrity model Cap
pins: 1, 2

## HIK471MBJEJ0K
designator C?
Ceramic Pulse Disc Capacitor, Class 2: 470pF 15kV K 1500; Note: See Datasheet for other lead types & tolerances; Published: 17-Dec-2003; DatasheetDocument: 6-Sep-2001; PackageDocument: 2-Aug-2001; PackageReference: CAPRD12.5-15X8.4; Publisher: Altium Limited; ComponentLink1Description: Manufacturer Link; ComponentLink1URL: http://www.vishay.com/; ComponentLink2Description: Datasheet; ComponentLink2URL: http://www.vishay.com/docs/22164/hk.pdf; Value: 470pF
footprint CAPRD12.5-15X8.4 (Capacitor, Ceramic, Thru-Hole, Disc; Body 15 x 8.4 mm (LxW max) Pin Spacing 12.5 mm (typ))
simulation model CAP (Capacitor)
signal-integrity model Cap
pins: 1, 2

## HIK561MBJEJ0K
designator C?
Ceramic Pulse Disc Capacitor, Class 2: 560pF 15kV K 1500; Note: See Datasheet for other lead types & tolerances; Published: 17-Dec-2003; DatasheetDocument: 6-Sep-2001; PackageDocument: 2-Aug-2001; PackageReference: CAPRD12.5-15X8.4; Publisher: Altium Limited; ComponentLink1Description: Manufacturer Link; ComponentLink1URL: http://www.vishay.com/; ComponentLink2Description: Datasheet; ComponentLink2URL: http://www.vishay.com/docs/22164/hk.pdf; Value: 560pF
footprint CAPRD12.5-15X8.4 (Capacitor, Ceramic, Thru-Hole, Disc; Body 15 x 8.4 mm (LxW max) Pin Spacing 12.5 mm (typ))
simulation model CAP (Capacitor)
signal-integrity model Cap
pins: 1, 2

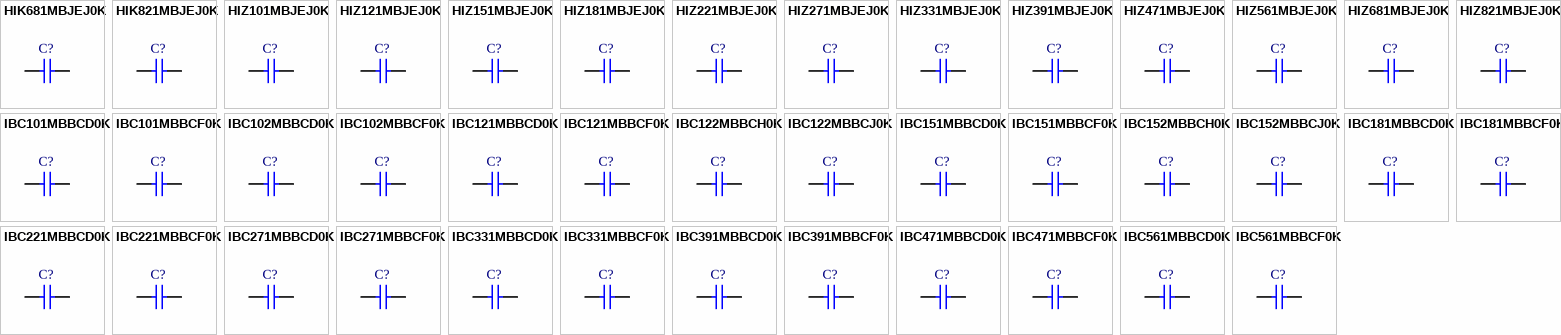
[diagram p9: symbols HIK681MBJEJ0K to IBC561MBBCF0K]

## HIK681MBJEJ0K
designator C?
Ceramic Pulse Disc Capacitor, Class 2: 680pF 15kV K 1500; Note: See Datasheet for other lead types & tolerances; Published: 17-Dec-2003; DatasheetDocument: 6-Sep-2001; PackageDocument: 2-Aug-2001; PackageReference: CAPRD12.5-16X8.4; Publisher: Altium Limited; ComponentLink1Description: Manufacturer Link; ComponentLink1URL: http://www.vishay.com/; ComponentLink2Description: Datasheet; ComponentLink2URL: http://www.vishay.com/docs/22164/hk.pdf; Value: 680pF
footprint CAPRD12.5-16X8.4 (Capacitor, Ceramic, Thru-Hole, Disc; Body 16 x 8.4 mm (LxW max) Pin Spacing 12.5 mm (typ))
simulation model CAP (Capacitor)
signal-integrity model Cap
pins: 1, 2

## HIK821MBJEJ0K
designator C?
Ceramic Pulse Disc Capacitor, Class 2: 820pF 15kV K 1500; Note: See Datasheet for other lead types & tolerances; Published: 17-Dec-2003; DatasheetDocument: 6-Sep-2001; PackageDocument: 2-Aug-2001; PackageReference: CAPRD12.5-18.5X8.4; Publisher: Altium Limited; ComponentLink1Description: Manufacturer Link; ComponentLink1URL: http://www.vishay.com/; ComponentLink2Description: Datasheet; ComponentLink2URL: http://www.vishay.com/docs/22164/hk.pdf; Value: 820pF
footprint CAPRD12.5-18.5X8.4 (Capacitor, Ceramic, Thru-Hole, Disc; Body 18.5 x 8.4 mm (LxW max) Pin Spacing 12.5 mm (typ))
simulation model CAP (Capacitor)
signal-integrity model Cap
pins: 1, 2

## HIZ101MBJEJ0K
designator C?
Ceramic High Voltage Disc Capacitor, Class 2: 100pF 15kV K 2000; Note: See Datasheet for other lead types & tolerances; Published: 17-Dec-2003; DatasheetDocument: 11-Dec-2001; PackageDocument: 2-Aug-2001; PackageReference: CAPRD12.5-18X8; Publisher: Altium Limited; ComponentLink1Description: Manufacturer Link; ComponentLink1URL: http://www.vishay.com/; ComponentLink2Description: Datasheet; ComponentLink2URL: http://www.vishay.com/docs/22161/h.pdf; Value: 100pF
footprint CAPRD12.5-18X8 (Capacitor, Ceramic, Thru-Hole, Disc; Body 18 x 8 mm (LxW max) Pin Spacing 12.5 mm (typ))
simulation model CAP (Capacitor)
signal-integrity model Cap
pins: 1, 2

## HIZ121MBJEJ0K
designator C?
Ceramic High Voltage Disc Capacitor, Class 2: 120pF 15kV K 2000; Note: See Datasheet for other lead types & tolerances; Published: 17-Dec-2003; DatasheetDocument: 11-Dec-2001; PackageDocument: 2-Aug-2001; PackageReference: CAPRD12.5-18X8; Publisher: Altium Limited; ComponentLink1Description: Manufacturer Link; ComponentLink1URL: http://www.vishay.com/; ComponentLink2Description: Datasheet; ComponentLink2URL: http://www.vishay.com/docs/22161/h.pdf; Value: 120pF
footprint CAPRD12.5-18X8 (Capacitor, Ceramic, Thru-Hole, Disc; Body 18 x 8 mm (LxW max) Pin Spacing 12.5 mm (typ))
simulation model CAP (Capacitor)
signal-integrity model Cap
pins: 1, 2

## HIZ151MBJEJ0K
designator C?
Ceramic High Voltage Disc Capacitor, Class 2: 150pF 15kV K 2000; Note: See Datasheet for other lead types & tolerances; Published: 17-Dec-2003; DatasheetDocument: 11-Dec-2001; PackageDocument: 2-Aug-2001; PackageReference: CAPRD12.5-12X11; Publisher: Altium Limited; ComponentLink1Description: Manufacturer Link; ComponentLink1URL: http://www.vishay.com/; ComponentLink2Description: Datasheet; ComponentLink2URL: http://www.vishay.com/docs/22161/h.pdf; Value: 150pF
footprint CAPRD12.5-12X11 (Capacitor, Ceramic, Thru-Hole, Disc; Body 12 x 11 mm (LxW max) Pin Spacing 12.5 mm (typ))
simulation model CAP (Capacitor)
signal-integrity model Cap
pins: 1, 2

## HIZ181MBJEJ0K
designator C?
Ceramic High Voltage Disc Capacitor, Class 2: 180pF 15kV K 2000; Note: See Datasheet for other lead types & tolerances; Published: 17-Dec-2003; DatasheetDocument: 11-Dec-2001; PackageDocument: 2-Aug-2001; PackageReference: CAPRD12.5-13X11; Publisher: Altium Limited; ComponentLink1Description: Manufacturer Link; ComponentLink1URL: http://www.vishay.com/; ComponentLink2Description: Datasheet; ComponentLink2URL: http://www.vishay.com/docs/22161/h.pdf; Value: 180pF
footprint CAPRD12.5-13X11 (Capacitor, Ceramic, Thru-Hole, Disc; Body 13 x 11 mm (LxW max) Pin Spacing 12.5 mm (typ))
simulation model CAP (Capacitor)
signal-integrity model Cap
pins: 1, 2

## HIZ221MBJEJ0K
designator C?
Ceramic High Voltage Disc Capacitor, Class 2: 220pF 15kV K 2000; Note: See Datasheet for other lead types & tolerances; Published: 17-Dec-2003; DatasheetDocument: 11-Dec-2001; PackageDocument: 2-Aug-2001; PackageReference: CAPRD12.5-13X11; Publisher: Altium Limited; ComponentLink1Description: Manufacturer Link; ComponentLink1URL: http://www.vishay.com/; ComponentLink2Description: Datasheet; ComponentLink2URL: http://www.vishay.com/docs/22161/h.pdf; Value: 220pF
footprint CAPRD12.5-13X11 (Capacitor, Ceramic, Thru-Hole, Disc; Body 13 x 11 mm (LxW max) Pin Spacing 12.5 mm (typ))
simulation model CAP (Capacitor)
signal-integrity model Cap
pins: 1, 2

## HIZ271MBJEJ0K
designator C?
Ceramic High Voltage Disc Capacitor, Class 2: 270pF 15kV K 2000; Note: See Datasheet for other lead types & tolerances; Published: 17-Dec-2003; DatasheetDocument: 11-Dec-2001; PackageDocument: 2-Aug-2001; PackageReference: CAPRD12.5-14X11; Publisher: Altium Limited; ComponentLink1Description: Manufacturer Link; ComponentLink1URL: http://www.vishay.com/; ComponentLink2Description: Datasheet; ComponentLink2URL: http://www.vishay.com/docs/22161/h.pdf; Value: 270pF
footprint CAPRD12.5-14X11 (Capacitor, Ceramic, Thru-Hole, Disc; Body 14 x 11 mm (LxW max) Pin Spacing 12.5 mm (typ))
simulation model CAP (Capacitor)
signal-integrity model Cap
pins: 1, 2